# EAGLE library part CONN_8 (library freeimu-components)
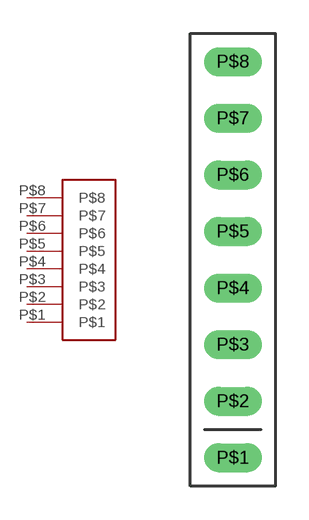
[diagram p0: symbol with the pads of CONN_8; footprint CONN_8]

Designator prefix -

## CONN_8  [CONN_8]
P$1  P$1
P$2  P$2
P$3  P$3
P$4  P$4
P$5  P$5
P$6  P$6
P$7  P$7
P$8  P$8

## Footprint CONN_8 (pad centres in mm)
drill 0.8 long: P$1 0,0; P$2 0,2.54; P$3 0,5.08; P$4 0,7.62; P$5 0,10.16; P$6 0,12.7; P$7 0,15.24; P$8 0,17.78